# Altium footprint library DIP762W47P254L880H410Q6N.PcbLib: 1 footprints
Each footprint in its own frame and in the unit in brackets; x right, y up, seen from the top. Pads: shape width x height; smd on the part's side, far side on the other; paste and mask are expansions set on the pad; w line width, h text height; cw(c..) or ccw(c..) is an arc to the next point about the centre after c.
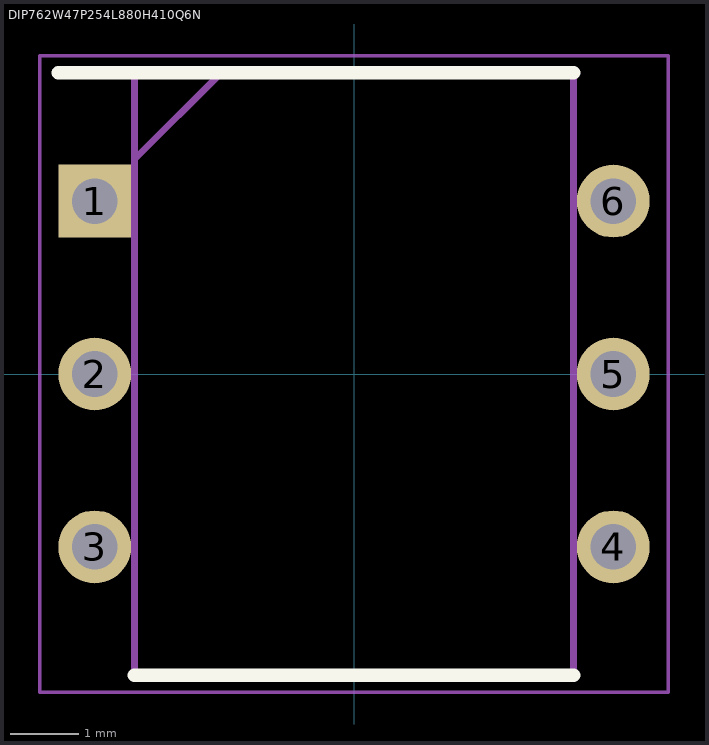
[diagram p0: the footprint, top view; thin cyan lines are the x and y axes]

## DIP762W47P254L880H410Q6N [mm]
pads (6):
  rect 1.07x1.07 / inner round 1.07 / far side rect 1.07x1.07 hole 0.67: 1(-3.81,2.54)
  round 1.07 hole 0.67: 2(-3.81,0) 3(-3.81,-2.54) 4(3.81,-2.54) 5(3.81,0) 6(3.81,2.54)
Top Overlay:
  lines w0.2: -4.345,4.425 3.225,4.425 ; -3.225,-4.425 3.225,-4.425
Mechanical 15:
  lines w0.1: -3.225,3.155 -1.955,4.425 ; -3.225,-4.425 3.225,-4.425 3.225,4.425 -3.225,4.425 -3.225,-4.425
Mechanical 20:
  lines w0.05: -4.62,-4.675 4.62,-4.675 4.62,4.675 -4.62,4.675 -4.62,-4.675